# EAGLE library part 10X12LEDMATRIX (library CEDT_JANUARY_2015_v6)
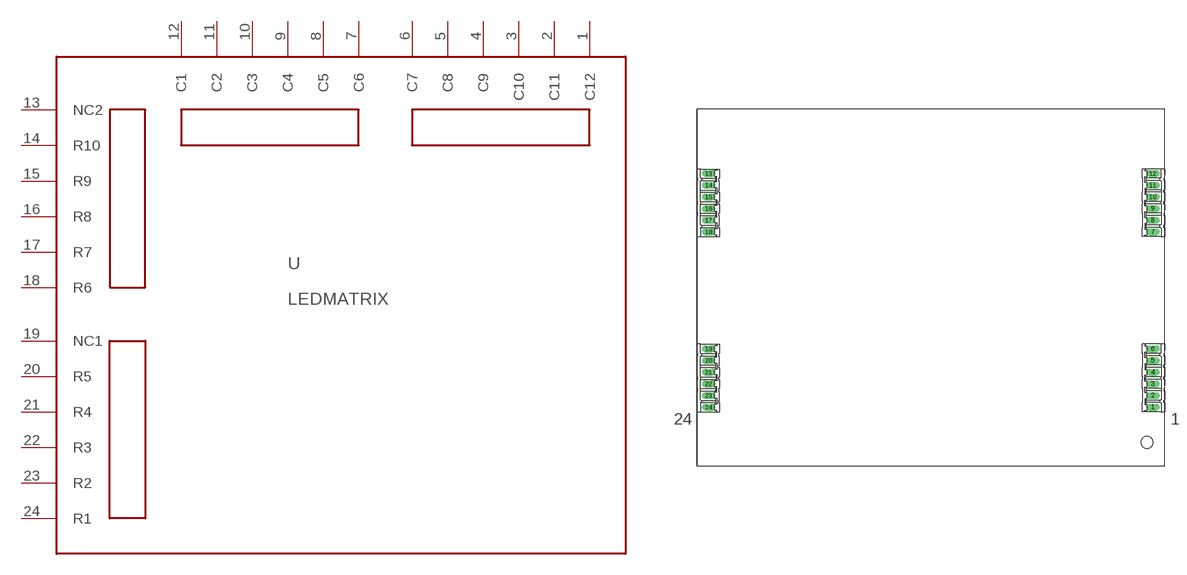
[diagram p85: symbol with the pads of 10X12LEDMATRIX; footprint 10X12LEDMATRIX]

Designator prefix -

## 10X12LEDMATRIX  [10X12LEDMATRIX]
1  C12
2  C11
3  C10
4  C9
5  C8
6  C7
7  C6
8  C5
9  C4
10  C3
11  C2
12  C1
13  NC2
14  R10
15  R9
16  R8
17  R7
18  R6
19  NC1
20  R5
21  R4
22  R3
23  R2
24  R1

## Footprint 10X12LEDMATRIX (pad centres in mm)
drill 1 long: 1 48.26,-26.67; 2 48.26,-24.13; 3 48.26,-21.59; 4 48.26,-19.05; 5 48.26,-16.51; 6 48.26,-13.97; 7 48.26,11.43; 8 48.26,13.97; 9 48.26,16.51; 10 48.26,19.05; 11 48.26,21.59; 12 48.26,24.13; 13 -48.26,24.13; 14 -48.26,21.59; 15 -48.26,19.05; 16 -48.26,16.51; 17 -48.26,13.97; 18 -48.26,11.43; 19 -48.26,-13.97; 20 -48.26,-16.51; 21 -48.26,-19.05; 22 -48.26,-21.59; 23 -48.26,-24.13; 24 -48.26,-26.67